# EAGLE library part SN74AHC125N (library thecustomgeek)
Part SN74AHC125NSRG4 from TI. SO-14 package. Quad Bus Buff Gate With 3-State Outputs.
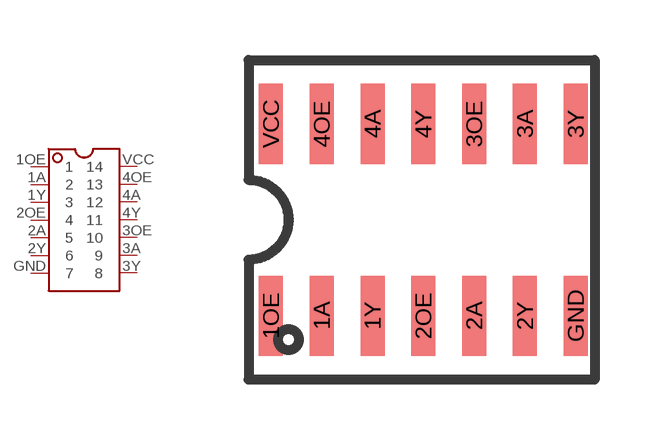
[diagram p7: symbol with the pads of SOP-14; footprint SOP-14]

Designator prefix -

## SN74AHC125N  [SOP-14]
1A  2
1OE  1
1Y  3
2A  5
2OE  4
2Y  6
3A  9
3OE  10
3Y  8
4A  12
4OE  13
4Y  11
GND  7
VCC  14

## Footprint SOP-14 (pad centres in mm)
smd 0.6 x 2: 1A 1.83,1.6; 1OE 0.56,1.6; 1Y 3.1,1.6; 2A 5.64,1.6; 2OE 4.37,1.6; 2Y 6.91,1.6; 3A 6.91,6.4; 3OE 5.64,6.4; 3Y 8.18,6.4; 4A 3.1,6.4; 4OE 1.83,6.4; 4Y 4.37,6.4; GND 8.18,1.6; VCC 0.56,6.4